# Altium schematic symbol library CL05A106MQ5NUNC.SchLib: 1 symbol
Pins are listed as number, name and electrical type; pins without a type are passive.

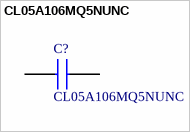
[diagram p0: symbol CL05A106MQ5NUNC]

## CL05A106MQ5NUNC
designator C?
CAP CER 10UF 6.3V X5R 0402; Manufacturer_Name: Samsung Electro-Mechanics; Geometry.Height: 0.7mm; Manufacturer_Part_Number: CL05A106MQ5NUNC; Mouser Part Number: 187-CL05A106MQ5NUNC; Mouser Price/Stock: https://www.mouser.co.uk/ProductDetail/Samsung-Electro-Mechanics/CL05A106MQ5NUNC?qs=X6jEic%2FHinDK8vVLi1zwpw%3D%3D; Arrow Part Number: CL05A106MQ5NUNC; Arrow Price/Stock: https://www.arrow.com/en/products/cl05a106mq5nunc/samsung-electro-mechanics?region=nac; Mouser Testing Part Number: *; Mouser Testing Price/Stock: *; Datasheet Link: https://datasheet.datasheetarchive.com/originals/distributors/Datasheets-DGA10/2406160.pdf
footprint CL05A106MQ5NUNC
pins: 1, 2